# Altium footprint library CODEC_SHIELD.PcbLib: 6 footprints
Each footprint in its own frame and in the unit in brackets; x right, y up, seen from the top. Pads: shape width x height; smd on the part's side, far side on the other; paste and mask are expansions set on the pad; w line width, h text height; cw(c..) or ccw(c..) is an arc to the next point about the centre after c.
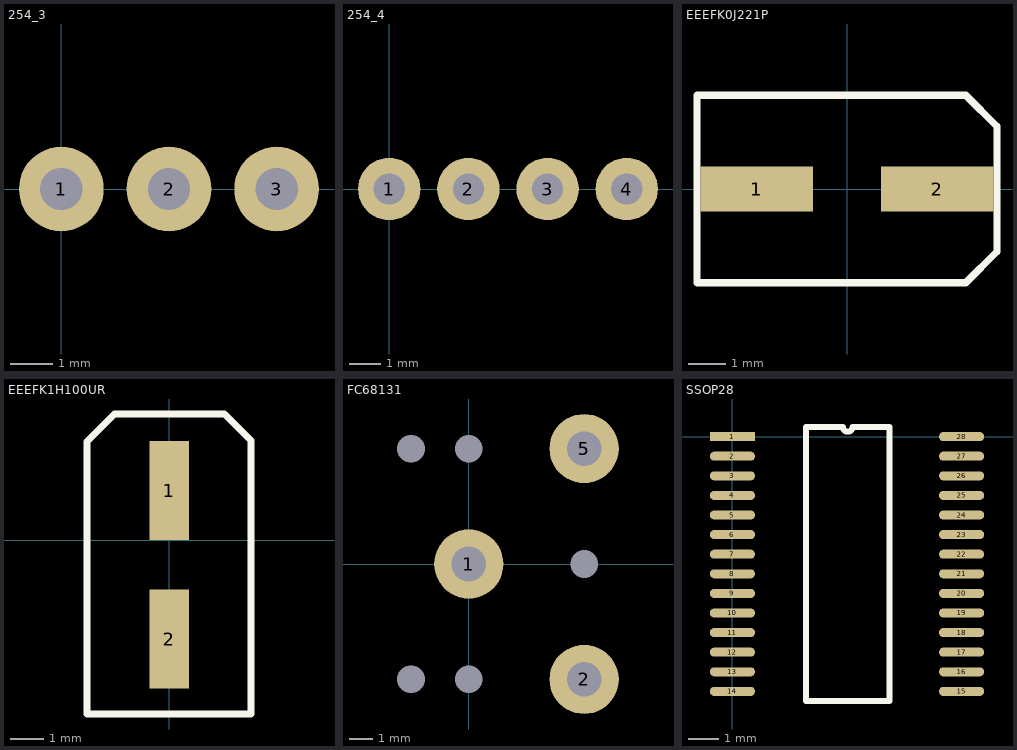
[diagram p0: the footprints below, top view; thin cyan lines are the x and y axes]

## 254_3 [mm]
pads (3):
  round 2 hole 1: 1(0,0) 2(2.54,0) 3(5.08,0)
3D body: height 11.03, standoff -1.92, extent -1.159,-3.275 6.309,3.075

## 254_4 [mm]
pads (4):
  round 2 hole 1: 1(0,0) 2(2.54,0) 3(5.08,0) 4(7.62,0)
3D body: height 11.03, standoff -1.92, extent -1.179,-3.225 8.829,3.125

## EEEFK0J221P [mm]
pads (2):
  rect 3x1.2 smd: 1(-2.4,0) 2(2.4,0)
Top Overlay:
  lines w0.2: -4,-2.5 -4,0 -4,2.5 3.167,2.5 4,1.667 4,-1.667 3.167,-2.5 -4,-2.5
3D body: height 5.8, standoff 0, extent -3.125,-3.149 3.175,3.149

## EEEFK1H100UR [mm]
pads (2):
  rect 1.2x3 smd: 1(0,1.5) 2(0,-3)
Top Overlay:
  lines w0.2: -2.5,-5.275 0,-5.275 2.475,-5.275 2.475,3.017 1.667,3.825 -1.667,3.825 -2.5,2.992 -2.5,-5.275
3D body: height 5.8, standoff 0, extent -2.5,-3.274 2.5,1.724

## FC68131 [mm]
pads (8):
  round 3 hole 1.5: 1(0,0) 2(5,-5) 5(5,5)
  round 0 hole 1.2: ""(-2.5,-5) ""(-2.5,5) ""(0,-5) ""(0,5) ""(5,0)
3D body: height 5.5, standoff -3.3, extent -6.5,-6 7.5,6

## SSOP28 [mm]
pads (28):
  rect 1.5x0.3 smd: 1(0,0)
  oval 1.5x0.3 smd: 2(0,-0.65) 3(0,-1.3) 4(0,-1.95) 5(0,-2.6) 6(0,-3.25) 7(0,-3.9) 8(0,-4.55) 9(0,-5.2) 10(0,-5.85) 11(0,-6.5) 12(0,-7.15) 13(0,-7.8) 14(0,-8.45) 15(7.6,-8.45) 16(7.6,-7.8) 17(7.6,-7.15) 18(7.6,-6.5) 19(7.6,-5.85) 20(7.6,-5.2) 21(7.6,-4.55) 22(7.6,-3.9) 23(7.6,-3.25) 24(7.6,-2.6) 25(7.6,-1.95) 26(7.6,-1.3) 27(7.6,-0.65) 28(7.6,0)
Top Overlay:
  lines w0.2: 2.435,-8.775 2.435,0.325 3.662,0.325 ccw(c3.825,0.325) 3.987,0.325 5.215,0.325 5.215,-8.775 2.435,-8.775
3D body: height 2.15, standoff 0, extent 0.047,-9.4 7.803,0.93